# EAGLE library part MICRO-SD (library U-AVR)
MicroSD card breakout PINOUT BASED ON https://www.adafruit.com/product/254 used to interface SPI master controller to SPI slave device (e.g. an SD card)
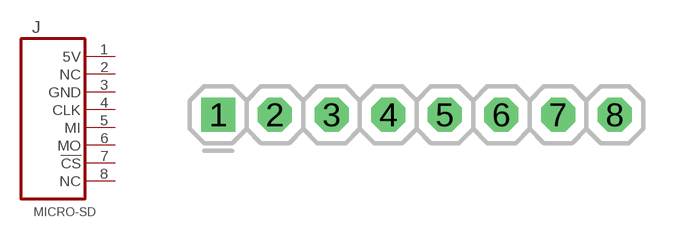
[diagram p13: symbol with the pads of MICRO-SD; footprint MICRO-SD]

Designator prefix J

## MICRO-SD  [MICRO-SD]
1  5V
2  NC
3  GND
4  CLK
5  MI
6  MO
7  !CS
8  NC

## Footprint MICRO-SD (pad centres in mm)
drill 1.016 square: 1 0,0
drill 1.016 octagon: 2 2.54,0; 3 5.08,0; 4 7.62,0; 5 10.16,0; 6 12.7,0; 7 15.24,0; 8 17.78,0